# EAGLE library part UBLOX_CAM (library Ava)
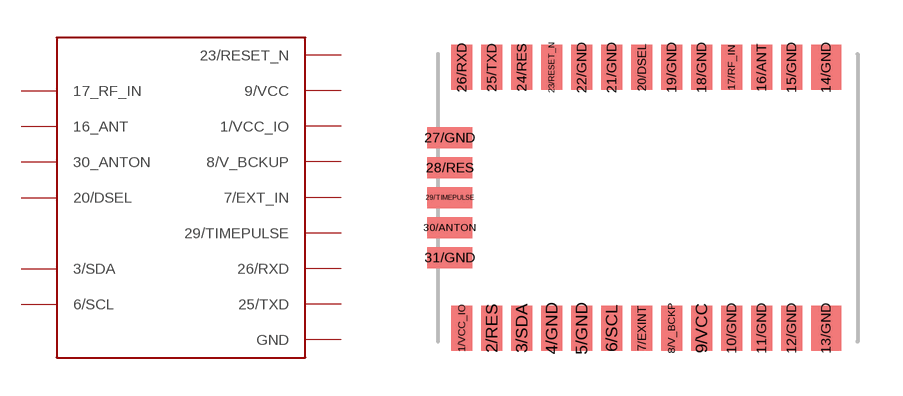
[diagram p59: symbol with the pads of UBLOX_CAM-M8; footprint UBLOX_CAM-M8]

Designator prefix -

## UBLOX_CAM  [UBLOX_CAM-M8]
1/VCC_IO  1/VCC_IO  pwr
3/SDA  3/SDA
4/GND  GND  pwr
5/GND  GND  pwr
6/SCL  6/SCL
7/EXINT  7/EXT_IN
8/V_BCKP  8/V_BCKUP
9/VCC  9/VCC  pwr
10/GND  GND  pwr
11/GND  GND  pwr
12/GND  GND  pwr
13/GND  GND  pwr
14/GND  GND  pwr
15/GND  GND  pwr
16/ANT  16_ANT  pwr
17/RF_IN  17_RF_IN
18/GND  GND  pwr
19/GND  GND  pwr
20/DSEL  20/DSEL
21/GND  GND  pwr
22/GND  GND  pwr
23/RESET_N  23/RESET_N  pwr
25/TXD  25/TXD
26/RXD  26/RXD
27/GND  GND  pwr
29/TIMEPULSE  29/TIMEPULSE
30/ANTON  30_ANTON
31/GND  GND  pwr

## Footprint UBLOX_CAM-M8 (pad centres in mm)
smd 0.7 x 1.5: 1/VCC_IO -13.2,-4.35; 2/RES -12.2,-4.35; 3/SDA -11.2,-4.35; 4/GND -10.2,-4.35; 5/GND -9.2,-4.35; 6/SCL -8.2,-4.35; 7/EXINT -7.2,-4.35; 8/V_BCKP -6.2,-4.35; 9/VCC -5.2,-4.35; 10/GND -4.2,-4.35; 11/GND -3.2,-4.35; 12/GND -2.2,-4.35; 15/GND -2.2,4.35; 16/ANT -3.2,4.35; 17/RF_IN -4.2,4.35; 18/GND -5.2,4.35; 19/GND -6.2,4.35; 20/DSEL -7.2,4.35; 21/GND -8.2,4.35; 22/GND -9.2,4.35; 23/RESET_N -10.2,4.35; 24/RES -11.2,4.35; 25/TXD -12.2,4.35; 26/RXD -13.2,4.35
smd 1 x 1.5: 13/GND -1.05,-4.35; 14/GND -1.05,4.35
smd 1.5 x 0.7: 27/GND -13.6,2; 28/RES -13.6,1; 29/TIMEPULSE -13.6,0; 30/ANTON -13.6,-1; 31/GND -13.6,-2